# Altium integrated library Infineon_Power_LED_Driver_IC_and_Lighting_IC.IntLib: 61 symbols (part 1 of 3)
Pins are listed as number, name and electrical type; pins without a type are passive.

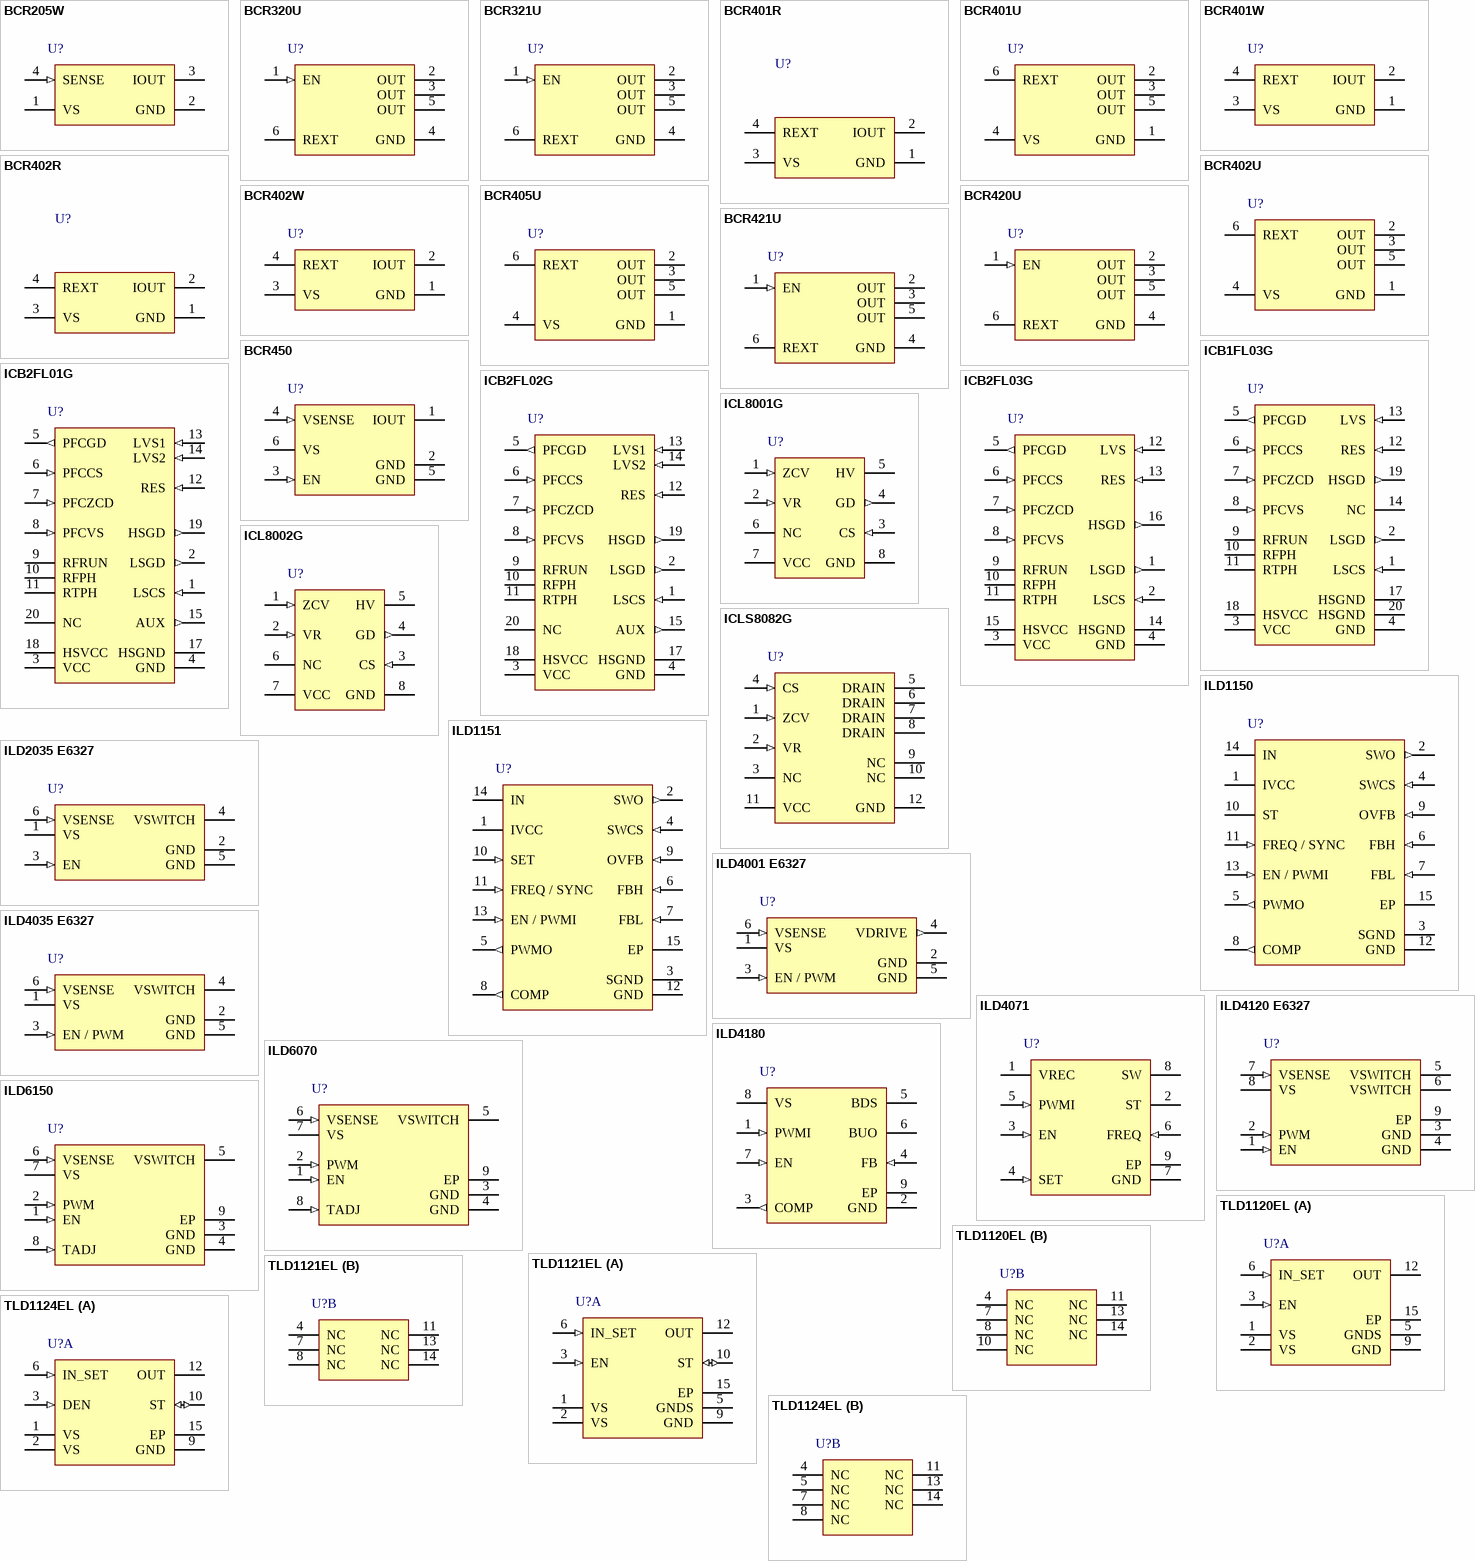
[diagram p0: symbols BCR205W to TLD1124EL]

## BCR205W
designator U?
Ultra low dropout LED controller, 1.8 V to 18 V, SOT343 (SC-82), Reel, Pb-free; Manufacturer: Infineon; PartNumber: BCR205W; Green: TRUE; VS (max): 18 V; VS (min): 1.8 V; DatasheetVersion: Revision 2.1; PackageVersion: Apr-08; PackageReference: SOT343 (SC-82); PackageDescription: 4-Pin Small Outline Transistor Package, 2 x 1.25 mm Body, 1.3 mm Pitch; Halogen-free: TRUE; Packing: Reel; Type: Linear; Mounting Technology: Surface Mount; ComponentLink1Description: Manufacturer URL; ComponentLink1URL: http://www.infineon.com/; ComponentLink2Description: Datasheet; ComponentLink2URL: http://www.infineon.com/dgdl/BCR205W.pdf?folderId=db3a30431f848401011fcbf2ab4c04c4&fileId=db3a30432d081e66012d73e710fc6cc4&location=en.Products.LED_Drivers___Lighting_ICs.LED_Driver_for_Outdoor_Lighting___Indoor_Lighting.LED_Driver__Product_portfolio_and_Information.DATASHEET.BCR205W.pdf; ComponentLink3Description: Package Specification; ComponentLink3URL: http://www.infineon.com/dgdl/SOT343-Package_Overview.pdf?folderId=db3a30431936bc4b0119535155343cba&fileId=db3a30431936bc4b0119535a9f393cd3
footprint INF-SOT343 (SC-82)_N (SOT343, 4-Leads, Body 2x1.25mm, Pitch 1.3mm, IPC Medium Density)
footprint INF-SOT343 (SC-82)_L (SOT343, 4-Leads, Body 2x1.25mm, Pitch 1.3mm, IPC High Density)
footprint INF-SOT343 (SC-82)_M (SOT343, 4-Leads, Body 2x1.25mm, Pitch 1.3mm, IPC Low Density)
pins: 1 VS (power), 2 GND (power), 3 IOUT (oe), 4 SENSE (in)

## BCR320U
designator U?
LED Driver, 1.4 V to 24 V, SC74, Reel, Pb-free; Manufacturer: Infineon; PartNumber: BCR320U; Green: TRUE; VS (max): 24 V; VS (min): 1.4 V; DatasheetVersion: Revision 2.0; PackageVersion: Apr-08; PackageReference: SC74; PackageDescription: 6-Pin Semiconductor Package, 2.9 x 1.6 mm Body, 0.95 mm Pitch; Supplier 1: Newark; Supplier Part Number 1: 68R0436; Supplier 2: Farnell; Supplier Part Number 2: 1791065; Supplier 3: Farnell; Supplier Part Number 3: 1791065RL; Packing: Reel; Type: Linear; Mounting Technology: Surface Mount; ComponentLink1Description: Manufacturer URL; ComponentLink1URL: http://www.infineon.com/; ComponentLink2Description: Datasheet; ComponentLink2URL: http://www.infineon.com/dgdl/Infineon-BCR320U-BCR321U-LED-Driver-Rev2.0.pdf?folderId=db3a30431f848401011fcbf2ab4c04c4&fileId=db3a304324fc7f9a0125204353c942f9&location=en.Products.LED_Drivers___Lighting_ICs.LED_Driver_for_Outdoor_Lighting___Indoor_Lighting.LED_Driver__Product_portfolio_and_Information.DATASHEET.Infineon-BCR320U-BCR321U-LED-Driver-Rev2.0.pdf; ComponentLink3Description: Package Specification; ComponentLink3URL: http://www.infineon.com/dgdl/SC74-Package_Overview.pdf?folderId=db3a30431936bc4b01194dec844f40d9&fileId=db3a30431936bc4b01195175d46e3ab3
footprint INF-SC74_N (SOT23, 6-Leads, Body 2.9x1.6mm, Pitch 0.95mm, IPC Medium Density)
footprint INF-SC74_L (SOT23, 6-Leads, Body 2.9x1.6mm, Pitch 0.95mm, IPC High Density)
footprint INF-SC74_M (SOT23, 6-Leads, Body 2.9x1.6mm, Pitch 0.95mm, IPC Low Density)
pins: 1 EN (in), 2 OUT (oc), 3 OUT (oc), 4 GND (power), 5 OUT (oc), 6 REXT

## BCR321U
designator U?
LED Driver, 1.4 V to 24 V, SC74, Reel, Pb-free; Manufacturer: Infineon; PartNumber: BCR321U; Green: TRUE; VS (max): 24 V; VS (min): 1.4 V; DatasheetVersion: Revision 2.0; PackageVersion: Apr-08; PackageReference: SC74; PackageDescription: 6-Pin Semiconductor Package, 2.9 x 1.6 mm Body, 0.95 mm Pitch; Supplier 1: Newark; Supplier Part Number 1: 68R0437; Supplier 2: Farnell; Supplier Part Number 2: 1791066RL; Packing: Reel; Type: Linear; Mounting Technology: Surface Mount; ComponentLink1Description: Manufacturer URL; ComponentLink1URL: http://www.infineon.com/; ComponentLink2Description: Datasheet; ComponentLink2URL: http://www.infineon.com/dgdl/Infineon-BCR320U-BCR321U-LED-Driver-Rev2.0.pdf?folderId=db3a30431f848401011fcbf2ab4c04c4&fileId=db3a304324fc7f9a0125204353c942f9&location=en.Products.LED_Drivers___Lighting_ICs.LED_Driver_for_Outdoor_Lighting___Indoor_Lighting.LED_Driver__Product_portfolio_and_Information.DATASHEET.Infineon-BCR320U-BCR321U-LED-Driver-Rev2.0.pdf; ComponentLink3Description: Package Specification; ComponentLink3URL: http://www.infineon.com/dgdl/SC74-Package_Overview.pdf?folderId=db3a30431936bc4b01194dec844f40d9&fileId=db3a30431936bc4b01195175d46e3ab3
footprint INF-SC74_N (SOT23, 6-Leads, Body 2.9x1.6mm, Pitch 0.95mm, IPC Medium Density)
footprint INF-SC74_L (SOT23, 6-Leads, Body 2.9x1.6mm, Pitch 0.95mm, IPC High Density)
footprint INF-SC74_M (SOT23, 6-Leads, Body 2.9x1.6mm, Pitch 0.95mm, IPC Low Density)
pins: 1 EN (in), 2 OUT (oc), 3 OUT (oc), 4 GND (power), 5 OUT (oc), 6 REXT

## BCR401R
designator U?
LED Driver, 1.2 V to 18 V, SOT143R, Reel, Pb-free; Manufacturer: Infineon; PartNumber: BCR401R; Green: TRUE; VS (max): 18 V; VS (min): 1.2 V; PackageReference: SOT143R; PackageDescription: 4-Pin Small Outline Transistor Package, 1.3 x 2.9 mm Body; Supplier 1: Mouser; Supplier Part Number 1: N/A; Packing: Reel; Type: Linear; Mounting Technology: Surface Mount; ComponentLink1Description: Manufacturer URL; ComponentLink1URL: http://www.infineon.com/; ComponentLink2Description: Datasheet; ComponentLink2URL: http://www.infineon.com/dgdl/bcr401r.pdf?folderId=db3a30431400ef68011407a9cfc70181&fileId=db3a30431400ef68011407ab7ea10185&location=en.Products.LED_Drivers___Lighting_ICs.LED_Driver_for_Outdoor_Lighting___Indoor_Lighting.LED_Driver__Product_portfolio_and_Information.DATASHEET.bcr401r.pdf; ComponentLink3Description: Package Specification; ComponentLink3URL: http://www.infineon.com/dgdl/SOT143R-Package_Overview.pdf?folderId=db3a30431936bc4b011952e85fd43c15&fileId=db3a30431936bc4b011952f98add3c34
footprint INF-SOT143R_V (SOT143, 4-Leads, Body 2.9x1.3 mm)
pins: 1 GND (power), 2 IOUT (oe), 3 VS (power), 4 REXT

## BCR401U
designator U?
LED Driver, 1.4 to 40 V, SC74, Reel, Pb-free; Manufacturer: Infineon; PartNumber: BCR401U; Green: TRUE; VS (max): 40 V; VS (min): 1.4 V; DatasheetVersion: Revision 2.0; PackageVersion: Apr-08; PackageReference: SC74; PackageDescription: 6-Pin Semiconductor Package, 2.9 x 1.6 mm Body, 0.95 mm Pitch; Supplier 1: Mouser; Supplier Part Number 1: N/A; Supplier 2: Newark; Supplier Part Number 2: 68R0438; Supplier 3: Farnell; Supplier Part Number 3: 1791062RL; Supplier 4: Farnell; Supplier Part Number 4: 1791062; Packing: Reel; Type: Linear; Mounting Technology: Surface Mount; ComponentLink1Description: Manufacturer URL; ComponentLink1URL: http://www.infineon.com/; ComponentLink2Description: Datasheet; ComponentLink2URL: http://www.infineon.com/dgdl/Infineon-BCR401U-LED-Driver-Rev2.0.pdf?folderId=db3a30431400ef68011407a9cfc70181&fileId=db3a30431441fb5d0114ab25fb1b132e&location=en.Products.LED_Drivers___Lighting_ICs.LED_Driver_for_Outdoor_Lighting___Indoor_Lighting.LED_Driver__Product_portfolio_and_Information.DATASHEET.Infineon-BCR401U-LED-Driver-Rev2.0.pdf; ComponentLink3Description: Package Specification; ComponentLink3URL: http://www.infineon.com/dgdl/SC74-Package_Overview.pdf?folderId=db3a30431936bc4b01194dec844f40d9&fileId=db3a30431936bc4b01195175d46e3ab3
footprint INF-SC74_N (SOT23, 6-Leads, Body 2.9x1.6mm, Pitch 0.95mm, IPC Medium Density)
footprint INF-SC74_L (SOT23, 6-Leads, Body 2.9x1.6mm, Pitch 0.95mm, IPC High Density)
footprint INF-SC74_M (SOT23, 6-Leads, Body 2.9x1.6mm, Pitch 0.95mm, IPC Low Density)
pins: 1 GND (power), 2 OUT (oe), 3 OUT (oe), 4 VS (power), 5 OUT (oe), 6 REXT

## BCR401W
designator U?
LED Driver, 1.2 V to 18 V, SOT343 (SC-82), Reel, Pb-free; Manufacturer: Infineon; PartNumber: BCR401W; Green: TRUE; VS (max): 18 V; VS (min): 1.2 V; DatasheetVersion: Revision 2.0; PackageVersion: Apr-08; PackageReference: SOT343 (SC-82); PackageDescription: 4-Pin Small Outline Transistor Package, 2 x 1.25 mm Body, 1.3 mm Pitch; Supplier 1: Mouser; Supplier Part Number 1: N/A; Supplier 2: Newark; Supplier Part Number 2: 68R0439; Supplier 3: Farnell; Supplier Part Number 3: 1791058RL; Supplier 4: Farnell; Supplier Part Number 4: 1791058; Halogen-free: TRUE; Packing: Reel; Type: Linear; Mounting Technology: Surface Mount; ComponentLink1Description: Manufacturer URL; ComponentLink1URL: http://www.infineon.com/; ComponentLink2Description: Datasheet; ComponentLink2URL: http://www.infineon.com/dgdl/Infineon-BCR401W-LED-Driver-Rev2.0.pdf?folderId=db3a30431400ef68011407a9cfc70181&fileId=db3a30431400ef68011407b0f84a0188&location=en.Products.LED_Drivers___Lighting_ICs.LED_Driver_for_Outdoor_Lighting___Indoor_Lighting.LED_Driver__Product_portfolio_and_Information.DATASHEET.Infineon-BCR401W-LED-Driver-Rev2.0.pdf; ComponentLink3Description: Package Specification; ComponentLink3URL: http://www.infineon.com/dgdl/SOT343-Package_Overview.pdf?folderId=db3a30431936bc4b0119535155343cba&fileId=db3a30431936bc4b0119535a9f393cd3
footprint INF-SOT343 (SC-82)_N (SOT343, 4-Leads, Body 2x1.25mm, Pitch 1.3mm, IPC Medium Density)
footprint INF-SOT343 (SC-82)_L (SOT343, 4-Leads, Body 2x1.25mm, Pitch 1.3mm, IPC High Density)
footprint INF-SOT343 (SC-82)_M (SOT343, 4-Leads, Body 2x1.25mm, Pitch 1.3mm, IPC Low Density)
pins: 1 GND (power), 2 IOUT (oe), 3 VS (power), 4 REXT

## BCR402R
designator U?
LED Driver, 1.2 V to 18 V, SOT143R, Reel, Pb-free; Manufacturer: Infineon; PartNumber: BCR402R; Green: TRUE; VS (max): 18 V; VS (min): 1.2 V; PackageReference: SOT143R; PackageDescription: 4-Pin Small Outline Transistor Package, 1.3 x 2.9 mm Body; Supplier 1: Mouser; Supplier Part Number 1: N/A; Packing: Reel; Type: Linear; Mounting Technology: Surface Mount; ComponentLink1Description: Manufacturer URL; ComponentLink1URL: http://www.infineon.com/; ComponentLink2Description: Datasheet; ComponentLink2URL: http://www.infineon.com/dgdl/bcr402r.pdf?folderId=db3a30431400ef68011407a9cfc70181&fileId=db3a30431400ef68011407bc2b0a0189&location=en.Products.LED_Drivers___Lighting_ICs.LED_Driver_for_Outdoor_Lighting___Indoor_Lighting.LED_Driver__Product_portfolio_and_Information.DATASHEET.bcr402r.pdf; ComponentLink3Description: Package Specification; ComponentLink3URL: http://www.infineon.com/dgdl/SOT143R-Package_Overview.pdf?folderId=db3a30431936bc4b011952e85fd43c15&fileId=db3a30431936bc4b011952f98add3c34
footprint INF-SOT143R_V (SOT143, 4-Leads, Body 2.9x1.3 mm)
pins: 1 GND (power), 2 IOUT (oe), 3 VS (power), 4 REXT

## BCR402U
designator U?
LED Driver, 1.4 V to 40 V, SC74, Reel, Pb-free; Manufacturer: Infineon; PartNumber: BCR402U; Green: TRUE; VS (max): 40 V; VS (min): 1.4 V; DatasheetVersion: Revision 2.0; PackageVersion: Apr-08; PackageReference: SC74; PackageDescription: 6-Pin Semiconductor Package, 2.9 x 1.6 mm Body, 0.95 mm Pitch; Supplier 1: Mouser; Supplier Part Number 1: N/A; Supplier 2: Newark; Supplier Part Number 2: 68R0440; Supplier 3: Farnell; Supplier Part Number 3: 1791063; Supplier 4: Farnell; Supplier Part Number 4: 1791063RL; Packing: Reel; Type: Linear; Mounting Technology: Surface Mount; ComponentLink1Description: Manufacturer URL; ComponentLink1URL: http://www.infineon.com/; ComponentLink2Description: Datasheet; ComponentLink2URL: http://www.infineon.com/dgdl/Infineon-BCR402U-LED-Driver-Rev2.0.pdf?folderId=db3a30431400ef68011407a9cfc70181&fileId=db3a30431400ef68011407c18a51018e&location=en.Products.LED_Drivers___Lighting_ICs.LED_Driver_for_Outdoor_Lighting___Indoor_Lighting.LED_Driver__Product_portfolio_and_Information.DATASHEET.Infineon-BCR402U-LED-Driver-Rev2.0.pdf; ComponentLink3Description: Package Specification; ComponentLink3URL: http://www.infineon.com/dgdl/SC74-Package_Overview.pdf?folderId=db3a30431936bc4b01194dec844f40d9&fileId=db3a30431936bc4b01195175d46e3ab3
footprint INF-SC74_N (SOT23, 6-Leads, Body 2.9x1.6mm, Pitch 0.95mm, IPC Medium Density)
footprint INF-SC74_L (SOT23, 6-Leads, Body 2.9x1.6mm, Pitch 0.95mm, IPC High Density)
footprint INF-SC74_M (SOT23, 6-Leads, Body 2.9x1.6mm, Pitch 0.95mm, IPC Low Density)
pins: 1 GND (power), 2 OUT (oc), 3 OUT (oc), 4 VS (power), 5 OUT (oc), 6 REXT

## BCR402W
designator U?
LED Driver, 1.4 V to 18 V, SOT343 (SC-82), Reel, Pb-free; Manufacturer: Infineon; PartNumber: BCR402W; Green: TRUE; VS (max): 18 V; VS (min): 1.4 V; DatasheetVersion: Revision 2.0; PackageVersion: Apr-08; PackageReference: SOT343 (SC-82); PackageDescription: 4-Pin Small Outline Transistor Package, 2 x 1.25 mm Body, 1.3 mm Pitch; Supplier 1: Mouser; Supplier Part Number 1: N/A; Supplier 2: Farnell; Supplier Part Number 2: 1791061RL; Supplier 3: Farnell; Supplier Part Number 3: 1791061; Halogen-free: TRUE; Packing: Reel; Type: Linear; Mounting Technology: Surface Mount; ComponentLink1Description: Manufacturer URL; ComponentLink1URL: http://www.infineon.com/; ComponentLink2Description: Datasheet; ComponentLink2URL: http://www.infineon.com/dgdl/Infineon-BCR402W-LED-Driver-Rev2.0.pdf?folderId=db3a30431400ef68011407a9cfc70181&fileId=db3a30431400ef68011407c5054c0192&location=en.Products.LED_Drivers___Lighting_ICs.LED_Driver_for_Outdoor_Lighting___Indoor_Lighting.LED_Driver__Product_portfolio_and_Information.DATASHEET.Infineon-BCR402W-LED-Driver-Rev2.0.pdf; ComponentLink3Description: Package Specification; ComponentLink3URL: http://www.infineon.com/dgdl/SOT343-Package_Overview.pdf?folderId=db3a30431936bc4b0119535155343cba&fileId=db3a30431936bc4b0119535a9f393cd3
footprint INF-SOT343 (SC-82)_N (SOT343, 4-Leads, Body 2x1.25mm, Pitch 1.3mm, IPC Medium Density)
footprint INF-SOT343 (SC-82)_L (SOT343, 4-Leads, Body 2x1.25mm, Pitch 1.3mm, IPC High Density)
footprint INF-SOT343 (SC-82)_M (SOT343, 4-Leads, Body 2x1.25mm, Pitch 1.3mm, IPC Low Density)
pins: 1 GND (power), 2 IOUT (oe), 3 VS (power), 4 REXT

## BCR405U
designator U?
LED Driver, 1.4 V to 40 V, SC74, Reel, Pb-free; Manufacturer: Infineon; PartNumber: BCR405U; Green: TRUE; VS (max): 40 V; VS (min): 1.4 V; PackageVersion: Apr-08; PackageReference: SC74; PackageDescription: 6-Pin Semiconductor Package, 2.9 x 1.6 mm Body, 0.95 mm Pitch; Supplier 1: Mouser; Supplier Part Number 1: N/A; Supplier 2: Newark; Supplier Part Number 2: 68R0442; Supplier 3: Farnell; Supplier Part Number 3: 1791064; Supplier 4: Farnell; Supplier Part Number 4: 1791064RL; Packing: Reel; Type: Linear; Mounting Technology: Surface Mount; ComponentLink1Description: Manufacturer URL; ComponentLink1URL: http://www.infineon.com/; ComponentLink2Description: Datasheet; ComponentLink2URL: http://www.infineon.com/dgdl/bcr405u.pdf?folderId=db3a30431400ef68011407a9cfc70181&fileId=db3a304333b8a7ca0133f9d1e2ca4349&location=en.Products.LED_Drivers___Lighting_ICs.LED_Driver_for_Outdoor_Lighting___Indoor_Lighting.LED_Driver__Product_portfolio_and_Information.DATASHEET.bcr405u.pdf; ComponentLink3Description: Package Specification; ComponentLink3URL: http://www.infineon.com/dgdl/SC74-Package_Overview.pdf?folderId=db3a30431936bc4b01194dec844f40d9&fileId=db3a30431936bc4b01195175d46e3ab3
footprint INF-SC74_N (SOT23, 6-Leads, Body 2.9x1.6mm, Pitch 0.95mm, IPC Medium Density)
footprint INF-SC74_L (SOT23, 6-Leads, Body 2.9x1.6mm, Pitch 0.95mm, IPC High Density)
footprint INF-SC74_M (SOT23, 6-Leads, Body 2.9x1.6mm, Pitch 0.95mm, IPC Low Density)
pins: 1 GND (power), 2 OUT (oc), 3 OUT (oc), 4 VS (power), 5 OUT (oc), 6 REXT

## BCR420U
designator U?
LED Driver, 1.4 to 40 V, SC74, Reel, Pb-free; Manufacturer: Infineon; PartNumber: BCR420U; Green: TRUE; VS (max): 40 V; VS (min): 1.4 V; DatasheetVersion: Revision 2.0; PackageVersion: Apr-08; PackageReference: SC74; PackageDescription: 6-Pin Semiconductor Package, 2.9 x 1.6 mm Body, 0.95 mm Pitch; Supplier 1: Newark; Supplier Part Number 1: 68R0443; Supplier 2: Farnell; Supplier Part Number 2: 1791067RL; Supplier 3: Farnell; Supplier Part Number 3: 1791067; Packing: Reel; Type: Linear; Mounting Technology: Surface Mount; ComponentLink1Description: Manufacturer URL; ComponentLink1URL: http://www.infineon.com/; ComponentLink2Description: Datasheet; ComponentLink2URL: http://www.infineon.com/dgdl/Infineon-BCR420U-BCR421U-LED-Driver-Rev2.0.pdf?folderId=db3a30431f848401011fcbf2ab4c04c4&fileId=db3a304324fc7f9a01252046582f4302&location=en.Products.LED_Drivers___Lighting_ICs.LED_Driver_for_Outdoor_Lighting___Indoor_Lighting.LED_Driver__Product_portfolio_and_Information.DATASHEET.Infineon-BCR420U-BCR421U-LED-Driver-Rev2.0.pdf; ComponentLink3Description: Package Specification; ComponentLink3URL: http://www.infineon.com/dgdl/SC74-Package_Overview.pdf?folderId=db3a30431936bc4b01194dec844f40d9&fileId=db3a30431936bc4b01195175d46e3ab3
footprint INF-SC74_N (SOT23, 6-Leads, Body 2.9x1.6mm, Pitch 0.95mm, IPC Medium Density)
footprint INF-SC74_L (SOT23, 6-Leads, Body 2.9x1.6mm, Pitch 0.95mm, IPC High Density)
footprint INF-SC74_M (SOT23, 6-Leads, Body 2.9x1.6mm, Pitch 0.95mm, IPC Low Density)
pins: 1 EN (in), 2 OUT (oc), 3 OUT (oc), 4 GND (power), 5 OUT (oc), 6 REXT

## BCR421U
designator U?
LED Driver, 1.4 V to 40 V, SC74, Reel, Pb-free; Manufacturer: Infineon; PartNumber: BCR421U; Green: TRUE; VS (max): 40 V; VS (min): 1.4 V; DatasheetVersion: Revision 2.0; PackageVersion: Apr-08; PackageReference: SC74; PackageDescription: 6-Pin Semiconductor Package, 2.9 x 1.6 mm Body, 0.95 mm Pitch; Supplier 1: Newark; Supplier Part Number 1: 68R0444; Supplier 2: Farnell; Supplier Part Number 2: 1791068RL; Supplier 3: Farnell; Supplier Part Number 3: 1791068; Packing: Reel; Type: Linear; Mounting Technology: Surface Mount; ComponentLink1Description: Manufacturer URL; ComponentLink1URL: http://www.infineon.com/; ComponentLink2Description: Datasheet; ComponentLink2URL: http://www.infineon.com/dgdl/Infineon-BCR420U-BCR421U-LED-Driver-Rev2.0.pdf?folderId=db3a30431f848401011fcbf2ab4c04c4&fileId=db3a304324fc7f9a01252046582f4302&location=en.Products.LED_Drivers___Lighting_ICs.LED_Driver_for_Outdoor_Lighting___Indoor_Lighting.LED_Driver__Product_portfolio_and_Information.DATASHEET.Infineon-BCR420U-BCR421U-LED-Driver-Rev2.0.pdf; ComponentLink3Description: Package Specification; ComponentLink3URL: http://www.infineon.com/dgdl/SC74-Package_Overview.pdf?folderId=db3a30431936bc4b01194dec844f40d9&fileId=db3a30431936bc4b01195175d46e3ab3
footprint INF-SC74_N (SOT23, 6-Leads, Body 2.9x1.6mm, Pitch 0.95mm, IPC Medium Density)
footprint INF-SC74_L (SOT23, 6-Leads, Body 2.9x1.6mm, Pitch 0.95mm, IPC High Density)
footprint INF-SC74_M (SOT23, 6-Leads, Body 2.9x1.6mm, Pitch 0.95mm, IPC Low Density)
pins: 1 EN (in), 2 OUT (oc), 3 OUT (oc), 4 GND (power), 5 OUT (oc), 6 REXT

## BCR450
designator U?
LED Driver IC, 8 V to 27 V, SC74, Reel, Pb-free; Manufacturer: Infineon; PartNumber: BCR450; Green: TRUE; VS (max): 27 V; VS (min): 8 V; DatasheetVersion: Rev. 3.0; PackageVersion: Apr-08; PackageReference: SC74; PackageDescription: 6-Pin Semiconductor Package, 2.9 x 1.6 mm Body, 0.95 mm Pitch; Supplier 1: Mouser; Supplier Part Number 1: N/A; Supplier 2: Newark; Supplier Part Number 2: 68R0445; Supplier 3: Farnell; Supplier Part Number 3: 1791069; Supplier 4: Farnell; Supplier Part Number 4: 1791069RL; Packing: Reel; Type: Linear; Mounting Technology: Surface Mount; ComponentLink1Description: Manufacturer URL; ComponentLink1URL: http://www.infineon.com/; ComponentLink2Description: Datasheet; ComponentLink2URL: http://www.infineon.com/dgdl/bcr450.pdf?folderId=db3a30431400ef68011407a9cfc70181&fileId=db3a304314dca38901156008609e1dc9&location=en.Products.LED_Drivers___Lighting_ICs.LED_Driver_for_Outdoor_Lighting___Indoor_Lighting.LED_Driver__Product_portfolio_and_Information.DATASHEET.bcr450.pdf; ComponentLink3Description: Package Specification; ComponentLink3URL: http://www.infineon.com/dgdl/SC74-Package_Overview.pdf?folderId=db3a30431936bc4b01194dec844f40d9&fileId=db3a30431936bc4b01195175d46e3ab3
footprint INF-SC74_N (SOT23, 6-Leads, Body 2.9x1.6mm, Pitch 0.95mm, IPC Medium Density)
footprint INF-SC74_L (SOT23, 6-Leads, Body 2.9x1.6mm, Pitch 0.95mm, IPC High Density)
footprint INF-SC74_M (SOT23, 6-Leads, Body 2.9x1.6mm, Pitch 0.95mm, IPC Low Density)
pins: 1 IOUT (oe) "Controlled output current to drive LEDs", 2 GND (power) "IC ground", 3 EN (in) "Power On control voltage pin (PWM input)", 4 VSENSE (in) "Sense control voltage pin for internal feedback mechanism", 5 GND (power) "IC ground", 6 VS (power) "Supply voltage"

## ICB1FL03G
designator U?
Smart Ballast Control IC for Fluorescent Lamp Ballasts, PG-DSO-18-2, Pb-free; Manufacturer: Infineon; PartNumber: ICB1FL03G; Green: TRUE; DatasheetVersion: Version 1.02; PackageVersion: Sep-08; PackageReference: PG-DSO-18-2; PackageDescription: 18-Pin Plastic (Green) Dual Small Outline Package, 12.7 x 7.5 mm Body, 1.27 mm Pitch; Supplier 1: Mouser; Supplier Part Number 1: 726-IC726-B1FL03G; Supplier 2: Digi-Key; Supplier Part Number 2: ICB1FL03G-ND; Halogen-free: TRUE; Mounting Technology: Surface Mount; ComponentLink1Description: Manufacturer URL; ComponentLink1URL: http://www.infineon.com/; ComponentLink2Description: Datasheet; ComponentLink2URL: http://www.infineon.com/dgdl/PrelimDatasheet-ICB1FL03G-1V02.pdf?folderId=db3a30431f848401011f89d0a1e2089a&fileId=db3a30432239cccd0122bb5cd72846d3&location=en.Products.LED_Drivers___Lighting_ICs.Smart_Ballast_Control_ICs_for_Fluorescent_Lamp_Ballasts.ICB1FL03G.DATASHEET.PrelimDatasheet-ICB1FL03G-1V02.pdf; ComponentLink3Description: Package Specification; ComponentLink3URL: http://www.infineon.com/dgdl/Datasheet-ICB1FL02G-V2+1.pdf?folderId=db3a304412b407950112b408e8c90004&fileId=db3a304412b407950112b436658d6610&location=en.Products.LED_Drivers___Lighting_ICs.Smart_Ballast_Control_ICs_for_Fluorescent_Lamp_Ballasts.ICB1FL02G_.DATASHEET.Datasheet-ICB1FL02G-V2%201.pdf
footprint INF-PG-DSO-18-2_A_N (SOP, 18-Leads, Body 12.7x7.5mm, Pitch 1.27mm, IPC Medium Density)
footprint INF-PG-DSO-18-2_A_L (SOP, 18-Leads, Body 12.7x7.5mm, Pitch 1.27mm, IPC High Density)
footprint INF-PG-DSO-18-2_A_M (SOP, 18-Leads, Body 12.7x7.5mm, Pitch 1.27mm, IPC Low Density)
pins: 1 LSCS (in) "Low side current sense (inverter)", 2 LSGD (out) "Low side gate drive (inverter)", 3 VCC (power) "Supply voltage", 4 GND (power) "Controller ground", 5 PFCGD (out) "PFC gate drive", 6 PFCCS (in) "PFC current sense", 7 PFCZCD (in) "PFC zero current detector", 8 PFCVS (in) "PFC voltage sense", 9 RFRUN "Set R for run frequency", 10 RFPH "Set R for preheating frequency", 11 RTPH "Set R for preheating time", 12 RES (in) "Restart after lamp removal", 13 LVS (in) "Lamp voltage sense", 14 NC "Not connected", 17 HSGND (power) "High side ground", 18 HSVCC (power) "High side supply voltage", 19 HSGD (out) "High side gate drive", 20 HSGND (power) "High side ground"

## ICB2FL01G
designator U?
Smart Ballast Control IC for Fluorescent Lamp Ballasts, PG-DSO-19-1, Reel, Pb-free; Manufacturer: Infineon; PartNumber: ICB2FL01G; Green: TRUE; DatasheetVersion: V1.2; PackageVersion: Feb-10; PackageReference: PG-DSO-19-1; PackageDescription: 19-Pin Plastic (Green) Dual Small Outline Package, 12.7 x 7.5 mm Body, 1.27 mm Pitch; Supplier 1: Mouser; Supplier Part Number 1: 726-ICB2FL01G; Supplier 2: Digi-Key; Supplier Part Number 2: ICB2FL01GTR-ND; Supplier 3: Digi-Key; Supplier Part Number 3: ICB2FL01GCT-ND; Supplier 4: Digi-Key; Supplier Part Number 4: ICB2FL01GDKR-ND; Halogen-free: TRUE; Packing: Reel; Mounting Technology: Surface Mount; ComponentLink1Description: Manufacturer URL; ComponentLink1URL: http://www.infineon.com/; ComponentLink2Description: Datasheet; ComponentLink2URL: http://www.infineon.com/dgdl/100504_ICB2FL01G_Datasheet_V12.pdf?folderId=db3a30431f848401011f89d0a1e2089a&fileId=db3a30431f848401011f89d10482089b&location=en.Products.LED_Drivers___Lighting_ICs.Smart_Ballast_Control_ICs_for_Fluorescent_Lamp_Ballasts.ICB2FL01G___ICB2FL02G.DATASHEET.100504_ICB2FL01G_Datasheet_V12.pdf; ComponentLink3Description: Package Specification; ComponentLink3URL: http://www.infineon.com/dgdl/100208_Preliminary_DS_ICB2FL02G_v1+2.pdf?folderId=db3a30431f848401011f89d0a1e2089a&fileId=db3a30431ff988150120242154fb5afa
footprint INF-PG-DSO-19-1_A_N (SOP, 19-Leads, Body 12.7x7.5mm, Pitch 1.27mm, IPC Medium Density)
footprint INF-PG-DSO-19-1_A_L (SOP, 19-Leads, Body 12.7x7.5mm, Pitch 1.27mm, IPC High Density)
footprint INF-PG-DSO-19-1_A_M (SOP, 19-Leads, Body 12.7x7.5mm, Pitch 1.27mm, IPC Low Density)
pins: 1 LSCS (in) "Low side current sense (inverter)", 2 LSGD (out) "Low side Gate drive (inverter)", 3 VCC (power) "Supply voltage", 4 GND (power) "Low side Ground", 5 PFCGD (out) "PFC Gate drive", 6 PFCCS (in) "PFC current sense", 7 PFCZCD (in) "PFC zero current detector", 8 PFCVS (in) "PFC voltage sense", 9 RFRUN "Set R for run frequency", 10 RFPH "Set R for preheat frequency", 11 RTPH "Set R for preheating time", 12 RES (in) "Restart after lamp removal", 13 LVS1 (in) "Lamp voltage sense 1", 14 LVS2 (in) "Lamp voltage sense 2", 15 AUX (out) "Auxiliary output", 17 HSGND (power) "High side ground", 18 HSVCC (power) "High side supply voltage", 19 HSGD (out) "High side Gate drive (inverter)", 20 NC "Not connected"

## ICB2FL02G
designator U?
Smart Ballast Control IC for Fluorescent Lamp Ballasts, PG-DSO-19-1, Reel, Pb-free; Manufacturer: Infineon; PartNumber: ICB2FL02G; Green: TRUE; DatasheetVersion: V1.2; PackageVersion: Feb-10; PackageReference: PG-DSO-19-1; PackageDescription: 19-Pin Plastic (Green) Dual Small Outline Package, 12.7 x 7.5 mm Body, 1.27 mm Pitch; Supplier 1: Mouser; Supplier Part Number 1: 726-ICB2FL02G; Supplier 2: Digi-Key; Supplier Part Number 2: ICB2FL02GINTR-ND; Supplier 3: Digi-Key; Supplier Part Number 3: ICB2FL02GINCT-ND; Supplier 4: Digi-Key; Supplier Part Number 4: ICB2FL02GINDKR-ND; Halogen-free: TRUE; Packing: Reel; Mounting Technology: Surface Mount; ComponentLink1Description: Manufacturer URL; ComponentLink1URL: http://www.infineon.com/; ComponentLink2Description: Datasheet; ComponentLink2URL: http://www.infineon.com/dgdl/100208_Preliminary_DS_ICB2FL02G_v1+2.pdf?folderId=db3a30431f848401011f89d0a1e2089a&fileId=db3a30431ff988150120242154fb5afa; ComponentLink3Description: Package Specification; ComponentLink3URL: http://www.infineon.com/dgdl/100208_Preliminary_DS_ICB2FL02G_v1+2.pdf?folderId=db3a30431f848401011f89d0a1e2089a&fileId=db3a30431ff988150120242154fb5afa
footprint INF-PG-DSO-19-1_A_N (SOP, 19-Leads, Body 12.7x7.5mm, Pitch 1.27mm, IPC Medium Density)
footprint INF-PG-DSO-19-1_A_L (SOP, 19-Leads, Body 12.7x7.5mm, Pitch 1.27mm, IPC High Density)
footprint INF-PG-DSO-19-1_A_M (SOP, 19-Leads, Body 12.7x7.5mm, Pitch 1.27mm, IPC Low Density)
pins: 1 LSCS (in) "Low side current sense (inverter)", 2 LSGD (out) "Low side Gate drive (inverter)", 3 VCC (power) "Supply voltage", 4 GND (power) "Low side Ground", 5 PFCGD (out) "PFC Gate drive", 6 PFCCS (in) "PFC current sense", 7 PFCZCD (in) "PFC zero current detector", 8 PFCVS (in) "PFC voltage sense", 9 RFRUN "Set R for run frequency", 10 RFPH "Set R for preheat frequency", 11 RTPH "Set R for preheating time", 12 RES (in) "Restart after lamp removal", 13 LVS1 (in) "Lamp voltage sense 1", 14 LVS2 (in) "Lamp voltage sense 2", 15 AUX (out) "Auxiliary output", 17 HSGND (power) "High side ground", 18 HSVCC (power) "High side supply voltage", 19 HSGD (out) "High side Gate drive (inverter)", 20 NC "Not connected"

## ICB2FL03G
designator U?
2nd Generation FL Controller for Fluorescent Lamp Ballasts, PG-DSO-16, Reel, Pb-free; Manufacturer: Infineon; PartNumber: ICB2FL03G; Green: TRUE; DatasheetVersion: V1.1; PackageVersion: Revision 02, 01/2011; PackageReference: PG-DSO-16; PackageDescription: 16-Pin Plastic (Green) Dual Small Outline Package, 9.93 x 3.9 mm Body, 1.27 mm Pitch; Supplier 1: Mouser; Supplier Part Number 1: 726-ICB2FL03G; Halogen-free: TRUE; Packing: Reel; Mounting Technology: Surface Mount; ComponentLink1Description: Manufacturer URL; ComponentLink1URL: http://www.infineon.com/; ComponentLink2Description: Datasheet; ComponentLink2URL: http://www.infineon.com/dgdl/DS_ICB2FL03G_v1.1.pdf?folderId=db3a304316f66ee801178c31a9af054a&fileId=db3a304331c8f8560131d2858b290671&location=en.Products.LED_Drivers___Lighting_ICs.Smart_Ballast_Control_ICs_for_Fluorescent_Lamp_Ballasts.ICB2FL03G.DATASHEET.DS_ICB2FL03G_v1.1.pdf; ComponentLink3Description: Package Specification; ComponentLink3URL: http://www.infineon.com/dgdl/DS_ICB2FL03G_v1.1.pdf?folderId=db3a304316f66ee801178c31a9af054a&fileId=db3a304331c8f8560131d2858b290671
footprint INF-PG-DSO-16-9930X3900DE_N (SOP, 16-Leads, Body 9.93x3.9mm, Pitch 1.27mm, IPC Medium Density)
footprint INF-PG-DSO-16-9930X3900DE_L (SOP, 16-Leads, Body 9.93x3.9mm, Pitch 1.27mm, IPC High Density)
footprint INF-PG-DSO-16-9930X3900DE_M (SOP, 16-Leads, Body 9.93x3.9mm, Pitch 1.27mm, IPC Low Density)
pins: 1 LSGD (out) "Low side gate drive (inverter)", 2 LSCS (in) "Low side current sense (inverter)", 3 VCC (power) "Supply voltage", 4 GND (power) "Low side ground", 5 PFCGD (out) "PFC gate drive", 6 PFCCS (in) "PFC current sense", 7 PFCZCD (in) "PFC zero current detector", 8 PFCVS (in) "PFC voltage sense", 9 RFRUN "Set R for run frequency", 10 RFPH "Set R for preheat frequency", 11 RTPH "Set R for preheating time", 12 LVS (in) "Lamp voltage sense", 13 RES (in) "Restart after lamp removal", 14 HSGND (power) "High side ground", 15 HSVCC (power) "High side supply voltage", 16 HSGD (out) "High side gate drive (inverter)"

## ICL8001G
designator U?
Single-Stage Flyback And PFC Controller For LED Lighting Applications, PG-DSO-8, Reel, Pb-free; Manufacturer: Infineon; PartNumber: ICL8001G; Green: TRUE; DatasheetVersion: Version 1.0; PackageVersion: May-10; PackageReference: PG-DSO-8; PackageDescription: 8-Pin Plastic (Green) Dual Small Outline Package, 4.9 x 3.9 mm Body, 1.27 mm Pitch; Supplier 1: Mouser; Supplier Part Number 1: 726-ICL8001G; Supplier 2: Digi-Key; Supplier Part Number 2: ICL8001GTR-ND; Supplier 3: Digi-Key; Supplier Part Number 3: ICL8001GCT-ND; Supplier 4: Digi-Key; Supplier Part Number 4: ICL8001GDKR-ND; Halogen-free: TRUE; Packing: Reel; Mounting Technology: Surface Mount; ComponentLink1Description: Manufacturer URL; ComponentLink1URL: http://www.infineon.com/; ComponentLink2Description: Datasheet; ComponentLink2URL: http://www.infineon.com/dgdl/Datasheet_ICL8001G+vers+1.pdf?folderId=db3a304316f66ee801178c31a9af054a&fileId=db3a3043271faefd01273dce7b0e68f6; ComponentLink3Description: Package Specification; ComponentLink3URL: http://www.infineon.com/dgdl/Datasheet_ICL8001G+vers+1.pdf?folderId=db3a304316f66ee801178c31a9af054a&fileId=db3a3043271faefd01273dce7b0e68f6
footprint INF-PG-DSO-8-4900X3900DE_N (SOP, 8-Leads, Body 4.9x3.9mm, Pitch 1.27mm, IPC Medium Density)
footprint INF-PG-DSO-8-4900X3900DE_L (SOP, 8-Leads, Body 4.9x3.9mm, Pitch 1.27mm, IPC High Density)
footprint INF-PG-DSO-8-4900X3900DE_M (SOP, 8-Leads, Body 4.9x3.9mm, Pitch 1.27mm, IPC Low Density)
pins: 1 ZCV (in) "Zero Crossing", 2 VR (in) "Voltage Sense", 3 CS (in) "Current Sense", 4 GD (out) "Gate Drive Output", 5 HV (power) "High Voltage Input", 6 NC "Not connected", 7 VCC (power) "Controller Supply Voltage", 8 GND (power) "Controller Ground"

## ICL8002G
designator U?
Single Stage PFC and Flyback LED Controller, PG-DSO-8, Reel, Pb-free; Manufacturer: Infineon; PartNumber: ICL8002G; Green: TRUE; DatasheetVersion: Rev. 1.0; PackageVersion: May-10; PackageReference: PG-DSO-8; PackageDescription: 8-Pin Plastic (Green) Dual Small Outline Package, 4.9 x 3.9 mm Body, 1.27 mm Pitch; Halogen-free: TRUE; Packing: Reel; Mounting Technology: Surface Mount; ComponentLink1Description: Manufacturer URL; ComponentLink1URL: http://www.infineon.com/; ComponentLink2Description: Datasheet; ComponentLink2URL: http://www.infineon.com/dgdl/Data_Sheet_ICL8002G_V0.1.pdf?folderId=db3a304316f66ee801178c31a9af054a&fileId=db3a304336797ff90136a11a92993afd&location=en.Products.LED_Drivers___Lighting_ICs.Off-line_LED_Driver.LED_Driver_dimmable.DATASHEET.Data_Sheet_ICL8002G_V0.1.pdf; ComponentLink3Description: Package Specification; ComponentLink3URL: http://www.infineon.com/dgdl/Datasheet_ICL8001G+vers+1.pdf?folderId=db3a304316f66ee801178c31a9af054a&fileId=db3a3043271faefd01273dce7b0e68f6
footprint INF-PG-DSO-8-4900X3900DE_N (SOP, 8-Leads, Body 4.9x3.9mm, Pitch 1.27mm, IPC Medium Density)
footprint INF-PG-DSO-8-4900X3900DE_L (SOP, 8-Leads, Body 4.9x3.9mm, Pitch 1.27mm, IPC High Density)
footprint INF-PG-DSO-8-4900X3900DE_M (SOP, 8-Leads, Body 4.9x3.9mm, Pitch 1.27mm, IPC Low Density)
pins: 1 ZCV (in) "Zero Crossing", 2 VR (in) "Voltage Sense", 3 CS (in) "Current Sense", 4 GD (out) "Gate Drive Output", 5 HV (power) "High Voltage Input", 6 NC "Not connected", 7 VCC (power) "Controller Supply Voltage", 8 GND (power) "Controller Ground"

## ICLS8082G
designator U?
Offline LED Controller for PFC and Dimming with Integrated 800 V CoolMOS, PG-DSO-16-12, Reel, Green; Manufacturer: Infineon; PartNumber: ICLS8082G; Green: TRUE; DatasheetVersion: Rev. 1.0; PackageVersion: Rev. 01, 02/2013; PackageReference: PG-DSO-16-12; PackageDescription: 16-Pin Plastic (Green) Dual Small Outline Package, 3.9 x 9.9 mm Body, 1.27 mm Pitch; Supplier 1: Mouser; Supplier Part Number 1: 726-ICLS8082G; Supplier 2: Digi-Key; Supplier Part Number 2: ICLS8082G-ND; Halogen-free: TRUE; Mounting Technology: Surface Mount; ComponentLink1Description: Manufacturer URL; ComponentLink1URL: http://www.infineon.com/; ComponentLink2Description: Datasheet; ComponentLink2URL: http://www.infineon.com/dgdl/ICLS8082G_DataSheet.pdf?folderId=db3a304316f66ee801178c31a9af054a&fileId=db3a30433004641301301c5d07b62df9&location=en.Products.LED_Drivers___Lighting_ICs.Off-line_LED_Driver.LED_Driver_dimmable.DATASHEET.ICLS8082G_DataSheet.pdf; ComponentLink3Description: Package Specification; ComponentLink3URL: http://www.infineon.com/dgdl/Datasheet_ICE2QR2280G-1_V21_20130306.pdf?folderId=db3a30433dd36866013dd41eec4723fc&fileId=db3a30433dd42dcf013dd4f1067601a7
footprint INF-PG-DSO-16-12_A_N (SOP, 12-Leads, Body 9.9x3.9mm, Pitch 1.27mm, IPC Medium Density)
footprint INF-PG-DSO-16-12_A_L (SOP, 12-Leads, Body 9.9x3.9mm, Pitch 1.27mm, IPC High Density)
footprint INF-PG-DSO-16-12_A_M (SOP, 12-Leads, Body 9.9x3.9mm, Pitch 1.27mm, IPC Low Density)
pins: 1 ZCV (in) "Zero Crossing", 2 VR (in) "Voltage Sense", 3 NC "Not Connected", 4 CS (in) "Current Sense", 5 DRAIN (power) "800V Depletion CoolMOS(R) Drain", 6 DRAIN (power) "800V Depletion CoolMOS(R) Drain", 7 DRAIN (power) "800V Depletion CoolMOS(R) Drain", 8 DRAIN (power) "800V Depletion CoolMOS(R) Drain", 9 NC "Not Connected", 10 NC "Not Connected", 11 VCC (power) "Controller Supply Voltage", 12 GND (power) "Controller Ground"

## ILD1150
designator U?
Multitopology High Power LED DC/DC Controller IC for Industrial Applications, 4.75 to 45 V, PG-SSOP-14, Reel, Pb-free; Manufacturer: Infineon; PartNumber: ILD1150; Green: TRUE; VS (max): 45 V; VS (min): 4.75 V; DatasheetVersion: Rev. 1.1; PackageVersion: Oct-08; PackageReference: PG-SSOP-14; PackageDescription: 14-Pin Plastic (Green) Shrink Small Outline Package, 4.9 x 3.9 mm Body, 0.65 mm Pitch; Halogen-free: TRUE; Packing: Reel; Type: Multi-Topology; Mounting Technology: Surface Mount; ComponentLink1Description: Manufacturer URL; ComponentLink1URL: http://www.infineon.com/; ComponentLink2Description: Datasheet; ComponentLink2URL: http://www.infineon.com/dgdl/ILD1150-Data-Sheet-11-Infineon.pdf?folderId=db3a30431f848401011fcbf2ab4c04c4&fileId=db3a30433784a0400138049268c94c20&location=en.Products.LED_Drivers___Lighting_ICs.LED_Driver_for_Outdoor_Lighting___Indoor_Lighting.LED_Driver__Product_portfolio_and_Information.DATASHEET.ILD1150-Data-Sheet-11-Infineon.pdf; ComponentLink3Description: Package Specification; ComponentLink3URL: http://www.infineon.com/dgdl/ILD1151-Data-Sheet-11-Infineon.pdf?folderId=db3a30431f848401011fcbf2ab4c04c4&fileId=db3a304330046413013031216f2b20e1&location=en.Products.LED_Drivers___Lighting_ICs.LED_Driver_for_Outdoor_Lighting___Indoor_Lighting.LED_Driver__Product_portfolio_and_Information.DATASHEET.ILD1151-Data-Sheet-11-Infineon.pdf
footprint INF-PG-SSOP-14_N (SOP, 14-Leads, Body 4.9x3.9mm, Pitch 0.65mm, Thermal Pad 3.2x2.75mm, IPC Medium Density)
footprint INF-PG-SSOP-14_L (SOP, 14-Leads, Body 4.9x3.9mm, Pitch 0.65mm, Thermal Pad 3.2x2.85mm, IPC High Density)
footprint INF-PG-SSOP-14_M (SOP, 14-Leads, Body 4.9x3.9mm, Pitch 0.65mm, Thermal Pad 3.2x2.55mm, IPC Low Density)
pins: 1 IVCC (power) "Internal LDO Output; Used for internal biasing and gate drive. Bypass with external capacitor close to the pin. Pin must not be left open.", 2 SWO (out) "Switch Output; Connect to gate of external switching MOSFET", 3 SGND (power) "Current Sense Ground; Ground return for current sense switch", 4 SWCS (in) "Current Sense Input; Detects the peak current through switch", 5 PWMO (out) "PWM Dimming Output; Connect to gate of external MOSFET", 6 FBH (in) "Voltage Feedback Positive; Non inverting Input (+)", 7 FBL (in) "Voltage Feedback Negative; Inverting Input (-)", 8 COMP (out) "Compensation Input; Connect R and C network to pin for stability", 9 OVFB (in) "Output Overvoltage Protection Feedback; Connect to resistive voltage divider to set overvoltage threshold.", 10 ST (oc) "Status Output; Open drain diagnostic output to indicate fault condition. Connect pull up resistor to pin.", 11 FREQ / SYNC (in) "Frequency Select or Synchronization Input; Connect external resistor to GND to set frequency. Or apply external clock signal for synchronization within frequency capture range.", 12 GND (power) "Ground; Connect to system ground.", 13 EN / PWMI (in) "Enable or PWM Input; Apply logic HIGH signal to enable device or PWM signal for dimming LED.", 14 IN (power) "Supply Input; Supply for internal biasing.", 15 EP (power) "Exposed Pad; Connect to external heatspreading GND Cu area (e.g. inner GND layer of multilayer PCB with thermal vias)."

## ILD1151
designator U?
Multitopology High Power LED DC/DC Controller for Industrial Applications, 4.5 V to 45 V, PG-SSOP-14, Reel, Pb-free; Manufacturer: Infineon; PartNumber: ILD1151; Green: TRUE; VS (max): 45 V; VS (min): 4.5 V; DatasheetVersion: Rev. 1.1; PackageVersion: Oct-08; PackageReference: PG-SSOP-14; PackageDescription: 14-Pin Plastic (Green) Shrink Small Outline Package, 4.9 x 3.9 mm Body, 0.65 mm Pitch; Supplier 1: Mouser; Supplier Part Number 1: 726-ILD1151; Supplier 2: Digi-Key; Supplier Part Number 2: ILD1151-ND; Halogen-free: TRUE; Packing: Reel; Type: Multi-Topology; Mounting Technology: Surface Mount; ComponentLink1Description: Manufacturer URL; ComponentLink1URL: http://www.infineon.com/; ComponentLink2Description: Datasheet; ComponentLink2URL: http://www.infineon.com/dgdl/ILD1151-Data-Sheet-11-Infineon.pdf?folderId=db3a30431f848401011fcbf2ab4c04c4&fileId=db3a304330046413013031216f2b20e1&location=en.Products.LED_Drivers___Lighting_ICs.LED_Driver_for_Outdoor_Lighting___Indoor_Lighting.LED_Driver__Product_portfolio_and_Information.DATASHEET.ILD1151-Data-Sheet-11-Infineon.pdf; ComponentLink3Description: Package Specification; ComponentLink3URL: http://www.infineon.com/dgdl/ILD1151-Data-Sheet-11-Infineon.pdf?folderId=db3a30431f848401011fcbf2ab4c04c4&fileId=db3a304330046413013031216f2b20e1&location=en.Products.LED_Drivers___Lighting_ICs.LED_Driver_for_Outdoor_Lighting___Indoor_Lighting.LED_Driver__Product_portfolio_and_Information.DATASHEET.ILD1151-Data-Sheet-11-Infineon.pdf
footprint INF-PG-SSOP-14_N (SOP, 14-Leads, Body 4.9x3.9mm, Pitch 0.65mm, Thermal Pad 3.2x2.75mm, IPC Medium Density)
footprint INF-PG-SSOP-14_L (SOP, 14-Leads, Body 4.9x3.9mm, Pitch 0.65mm, Thermal Pad 3.2x2.85mm, IPC High Density)
footprint INF-PG-SSOP-14_M (SOP, 14-Leads, Body 4.9x3.9mm, Pitch 0.65mm, Thermal Pad 3.2x2.55mm, IPC Low Density)
pins: 1 IVCC (power) "Internal LDO Output; Used for internal biasing and gate drive. Bypass with external capacitor. Pin must not left open.", 2 SWO (out) "Switch Output; Connect to gate of external switching MOSFET", 3 SGND (power) "Current Sense Ground; Ground return for current sense switch", 4 SWCS (in) "Current Sense Input; Detects the peak current through switch", 5 PWMO (out) "PWM Dimming Output; Connect to gate of external MOSFET", 6 FBH (in) "Voltage Feedback Positive; Non inverting Input (+)", 7 FBL (in) "Voltage Feedback Negative; Inverting Input (-)", 8 COMP (out) "Compensation Input; Connect R and C network to pin for stability", 9 OVFB (in) "Output Overvoltage Protection Feedback; Connect to resistive voltage divider to set overvoltage threshold.", 10 SET (in) "Analog Dimming Input; Load current adjustment Pin. Pin must not be left open. If analog dimming feature  is not used connect to IVCC pin", 11 FREQ / SYNC (in) "Frequency Select or Synchronization Input; Connect external resistor to GND to set frequency. Or apply external clock signal for synchronization within frequency capture range.", 12 GND (power) "Ground; Connect to system ground.", 13 EN / PWMI (in) "Enable or PWM Input; Apply logic high signal to enable device or PWM signal for dimming LED", 14 IN (power) "Supply Input;Supply for internal biasing", 15 EP (power) "Exposed Pad; Connect to external heatspreading GND Cu area (e.g. inner GND layer of multilayer PCB with thermal vias)."

## ILD2035 E6327
designator U?
350 mA Step Down LED Driver, 8 V to 22 V, SC74, Reel, Pb-free; Manufacturer: Infineon; PartNumber: ILD2035 E6327; Green: TRUE; VS (max): 22 V; VS (min): 8 V; DatasheetVersion: Revision 1.0; PackageVersion: Apr-08; PackageReference: SC74; PackageDescription: 6-Pin Semiconductor Package, 2.9 x 1.6 mm Body, 0.95 mm Pitch; Packing: Reel; Type: Buck; Mounting Technology: Surface Mount; ComponentLink1Description: Manufacturer URL; ComponentLink1URL: http://www.infineon.com/; ComponentLink2Description: Datasheet; ComponentLink2URL: http://www.infineon.com/dgdl/ILD2035-350mA-LED-Driver-Rev1.0.pdf?folderId=db3a3043321e49940132291a57060bce&fileId=db3a3043321e49940132291b88650bcf&location=en.Products.LED_Drivers___Lighting_ICs.LED_Driver_for_Outdoor_Lighting___Indoor_Lighting.LED_Driver__Product_portfolio_and_Information.DATASHEET.ILD2035-350mA-LED-Driver-Rev1.0.pdf; ComponentLink3Description: Package Specification; ComponentLink3URL: http://www.infineon.com/dgdl/SC74-Package_Overview.pdf?folderId=db3a30431936bc4b01194dec844f40d9&fileId=db3a30431936bc4b01195175d46e3ab3
footprint INF-SC74_N (SOT23, 6-Leads, Body 2.9x1.6mm, Pitch 0.95mm, IPC Medium Density)
footprint INF-SC74_L (SOT23, 6-Leads, Body 2.9x1.6mm, Pitch 0.95mm, IPC High Density)
footprint INF-SC74_M (SOT23, 6-Leads, Body 2.9x1.6mm, Pitch 0.95mm, IPC Low Density)
pins: 1 VS (power) "Supply voltage", 2 GND (power) "IC ground", 3 EN (in) "Chip enable signal", 4 VSWITCH (oc) "Power switch output", 5 GND (power) "IC ground", 6 VSENSE (in) "LED current sense input"

## ILD4001 E6327
designator U?
Step Down LED Controller for High Power LEDs, 4.5 V to 42 V, SC74, Reel, Pb-free; Manufacturer: Infineon; PartNumber: ILD4001 E6327; Green: TRUE; VS (max): 42 V; VS (min): 4.5 V; DatasheetVersion: Revision 2.0; PackageVersion: Apr-08; PackageReference: SC74; PackageDescription: 6-Pin Semiconductor Package, 2.9 x 1.6 mm Body, 0.95 mm Pitch; Supplier 1: Newark; Supplier Part Number 1: 78X5184; Supplier 2: Farnell; Supplier Part Number 2: 2432505; Packing: Reel; Type: Buck; Mounting Technology: Surface Mount; ComponentLink1Description: Manufacturer URL; ComponentLink1URL: http://www.infineon.com/; ComponentLink2Description: Datasheet; ComponentLink2URL: http://www.infineon.com/dgdl/ILD4001-Step-down-LED-Controller-Rev2.0.pdf?folderId=db3a30431f848401011fcbf2ab4c04c4&fileId=db3a30433072cd8f01308fc1af03786b&location=en.Products.LED_Drivers___Lighting_ICs.LED_Driver_for_Outdoor_Lighting___Indoor_Lighting.LED_Driver__Product_portfolio_and_Information.DATASHEET.ILD4001-Step-down-LED-Controller-Rev2.0.pdf; ComponentLink3Description: Package Specification; ComponentLink3URL: http://www.infineon.com/dgdl/SC74-Package_Overview.pdf?folderId=db3a30431936bc4b01194dec844f40d9&fileId=db3a30431936bc4b01195175d46e3ab3
footprint INF-SC74_N (SOT23, 6-Leads, Body 2.9x1.6mm, Pitch 0.95mm, IPC Medium Density)
footprint INF-SC74_L (SOT23, 6-Leads, Body 2.9x1.6mm, Pitch 0.95mm, IPC High Density)
footprint INF-SC74_M (SOT23, 6-Leads, Body 2.9x1.6mm, Pitch 0.95mm, IPC Low Density)
pins: 1 VS (power) "Supply voltage", 2 GND (power) "IC ground", 3 EN / PWM (in) "Multifunctional pin: Chip enable signal, Analog dimming signal,  PWM dimming signal", 4 VDRIVE (out) "Push-pull switch output pin", 5 GND (power) "IC ground", 6 VSENSE (in) "LED current sense pin"

## ILD4035 E6327
designator U?
350 mA Step Down LED Driver, 4.5 V to 40 V, SC74, Reel, Pb-free; Manufacturer: Infineon; PartNumber: ILD4035 E6327; Green: TRUE; VS (max): 40 V; VS (min): 4.5 V; DatasheetVersion: Revision 2.0; PackageVersion: Apr-08; PackageReference: SC74; PackageDescription: 6-Pin Semiconductor Package, 2.9 x 1.6 mm Body, 0.95 mm Pitch; Supplier 1: Newark; Supplier Part Number 1: 78X5185; Supplier 2: Farnell; Supplier Part Number 2: 2432506; Packing: Reel; Type: Buck; Mounting Technology: Surface Mount; ComponentLink1Description: Manufacturer URL; ComponentLink1URL: http://www.infineon.com/; ComponentLink2Description: Datasheet; ComponentLink2URL: http://www.infineon.com/dgdl/ILD4035-350mA-LED-Driver-Rev2.0.pdf?folderId=db3a30431f848401011fcbf2ab4c04c4&fileId=db3a304327b8975001281f7ad0cb44be&location=en.Products.LED_Drivers___Lighting_ICs.LED_Driver_for_Outdoor_Lighting___Indoor_Lighting.LED_Driver__Product_portfolio_and_Information.DATASHEET.ILD4035-350mA-LED-Driver-Rev2.0.pdf; ComponentLink3Description: Package Specification; ComponentLink3URL: http://www.infineon.com/dgdl/SC74-Package_Overview.pdf?folderId=db3a30431936bc4b01194dec844f40d9&fileId=db3a30431936bc4b01195175d46e3ab3
footprint INF-SC74_N (SOT23, 6-Leads, Body 2.9x1.6mm, Pitch 0.95mm, IPC Medium Density)
footprint INF-SC74_L (SOT23, 6-Leads, Body 2.9x1.6mm, Pitch 0.95mm, IPC High Density)
footprint INF-SC74_M (SOT23, 6-Leads, Body 2.9x1.6mm, Pitch 0.95mm, IPC Low Density)
pins: 1 VS (power) "Supply voltage", 2 GND (power) "IC ground", 3 EN / PWM (in) "Multifunctional pin:  Chip enable signal, Analog dimming signal, PWM dimming signal", 4 VSWITCH (oc) "Power switch output", 5 GND (power) "IC ground", 6 VSENSE (in) "LED current sense input"

## ILD4071
designator U?
700 mA High Integration - DC/DC Step-Down Converter, 6 to 45 V, PG-DSO-8-27, Reel, Pb-free; Manufacturer: Infineon; PartNumber: ILD4071; Green: TRUE; VS (max): 45 V; VS (min): 6 V; DatasheetVersion: Rev. 1.0; PackageVersion: V01, 06/2012; PackageReference: PG-DSO-8-27; PackageDescription: 8-Pin Plastic (Green) Dual Small Outline Package, 4.9 x 3.9 mm Body, 1.27 mm Pitch; Halogen-free: TRUE; Packing: Reel; Type: Buck; Mounting Technology: Surface Mount; Code_JEDEC: MS-012; ComponentLink1Description: Manufacturer URL; ComponentLink1URL: http://www.infineon.com/; ComponentLink2Description: Datasheet; ComponentLink2URL: http://www.infineon.com/dgdl/ILD4071_DS_V10_November2011.pdf?folderId=db3a30431f848401011fcbf2ab4c04c4&fileId=db3a30433784a04001380498fdf04c32&location=en.Products.LED_Drivers___Lighting_ICs.LED_Driver_for_Outdoor_Lighting___Indoor_Lighting.LED_Driver__Product_portfolio_and_Information.DATASHEET.ILD4071_DS_V10_November2011.pdf; ComponentLink3Description: Package Specification; ComponentLink3URL: http://www.infineon.com/dgdl/ILD4071_DS_V10_November2011.pdf?folderId=db3a30431f848401011fcbf2ab4c04c4&fileId=db3a30433784a04001380498fdf04c32
footprint INF-PG-DSO-8-27_N (SOP, 8-Leads, Body 4.9x3.9mm, Pitch 1.27mm, Thermal Pad 3.2x2.85mm, IPC Medium Density)
footprint INF-PG-DSO-8-27_L (SOP, 8-Leads, Body 4.9x3.9mm, Pitch 1.27mm, Thermal Pad 3.2x2.85mm, IPC High Density)
footprint INF-PG-DSO-8-27_M (SOP, 8-Leads, Body 4.9x3.9mm, Pitch 1.27mm, Thermal Pad 3.2x2.85mm, IPC Low Density)
pins: 1 VREC (power) "Voltage Recirculation Output and Internal Supply Input; This pin is the supply pin of the IC (see block diagram). Furthermore the cathode of the integrated fast freewheeling diode is connected to this pin as well.", 2 ST (oc) "Status Output;Open collector diagnostic output to indicate an open load failure. Refer to Chapter 7 for more details.", 3 EN (in) "Enable; Apply logic HIGH signal to enable the device", 4 SET (in) "SET Input;Connect a low power resistor to adjust the output current.", 5 PWMI (in) "PWM Input; PWM signal for dimming LEDs. Connect external R and C combination to achieve an auto PWM-dimming function with defined frequency and duty cycle. 1) internal PWM dimming function (external RC connected to GND) 2) (See Datasheet)", 6 FREQ (in) "FREQuency Select Input; Connect external Resistor and Capacitor to GND to set the OFF-time of the switching frequency.", 7 GND (power) "Ground; Connect to system ground.", 8 SW (oc) "Integrated Power-Switch Output; Collector of the integrated NPN-power transistor.", 9 EP (power) "Exposed Pad; Connect to external heatspreading copper area with electrically GND (e.g. inner GND layer of the PCB via thermal vias)"